# EAGLE library part 691307400003 (library Wuerth_Elektronik_eiCan_Terminal_Blocks_v2.0)
WR - TBL Serie 3074 - 7.62mm Reversed Gender Vertical PCB Header , 3 pins
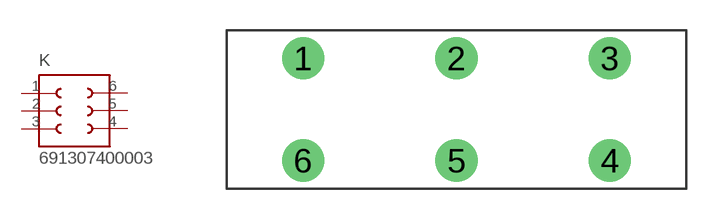
[diagram p191: symbol with the pads of 691307400003; footprint 691307400003]

Designator prefix K

## 691307400003  [691307400003]
1  1  pas
2  2  pas
3  3  pas
4  4  pas
5  5  pas
6  6  pas

## Footprint 691307400003 (pad centres in mm)
WR - TBL Serie 3074 - 7.62mm Reversed Gender Vertical PCB Header , 3 pins
drill 1.4 round: 1 -7.62,0; 2 0,0; 3 7.62,0; 4 7.62,-5.08; 5 0,-5.08; 6 -7.62,-5.08